# Altium schematic symbol library CAP-POL.SchLib: 1 symbol
Pins are listed as number, name and electrical type; pins without a type are passive.

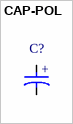
[diagram p0: symbol CAP-POL]

## CAP-POL
designator C?  (value not drawn)
pins: 1, 2
text: +